# Altium schematic symbol library DCT.SchLib: 1 symbol
Pins are listed as number, name and electrical type; pins without a type are passive.

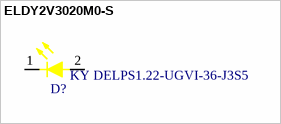
[diagram p0: symbol ELDY2V3020M0-S]

## ELDY2V3020M0-S
designator D?, comment value KY DELPS1.22-UGVI-36-J3S5  (hidden comment: Standard LEDs - SMD Yellow TOPLED E1608)
Manufacturer: OSRAM Opto Semiconductors; Internal Part Number: ELDY2V3020M0-S; Vendor Part Number: 720-KYDELPS122A4009; Component Height (mm): 0.6 mm; 3rd Auxiliary Field: AEC-Q101; 4th Auxiliary Field: ROHS3 Compliant; Temp Co: -40C +110C; Vendor Name: Mouser; 1st Auxiliary Field: 2.3 V; 2nd Auxiliary Field: 20 mA; Part Type: Standard LEDs - SMD Yellow TOPLED E1608; Manufacturer Part Number: KY DELPS1.22-UGVI-36-J3S5
footprint LEDSC140X80X60X-2N (Footprint not found)
pins: 1 K, 2 A